# Altium schematic symbol library CANcard.SchLib: 10 symbols
Pins are listed as number, name and electrical type; pins without a type are passive.

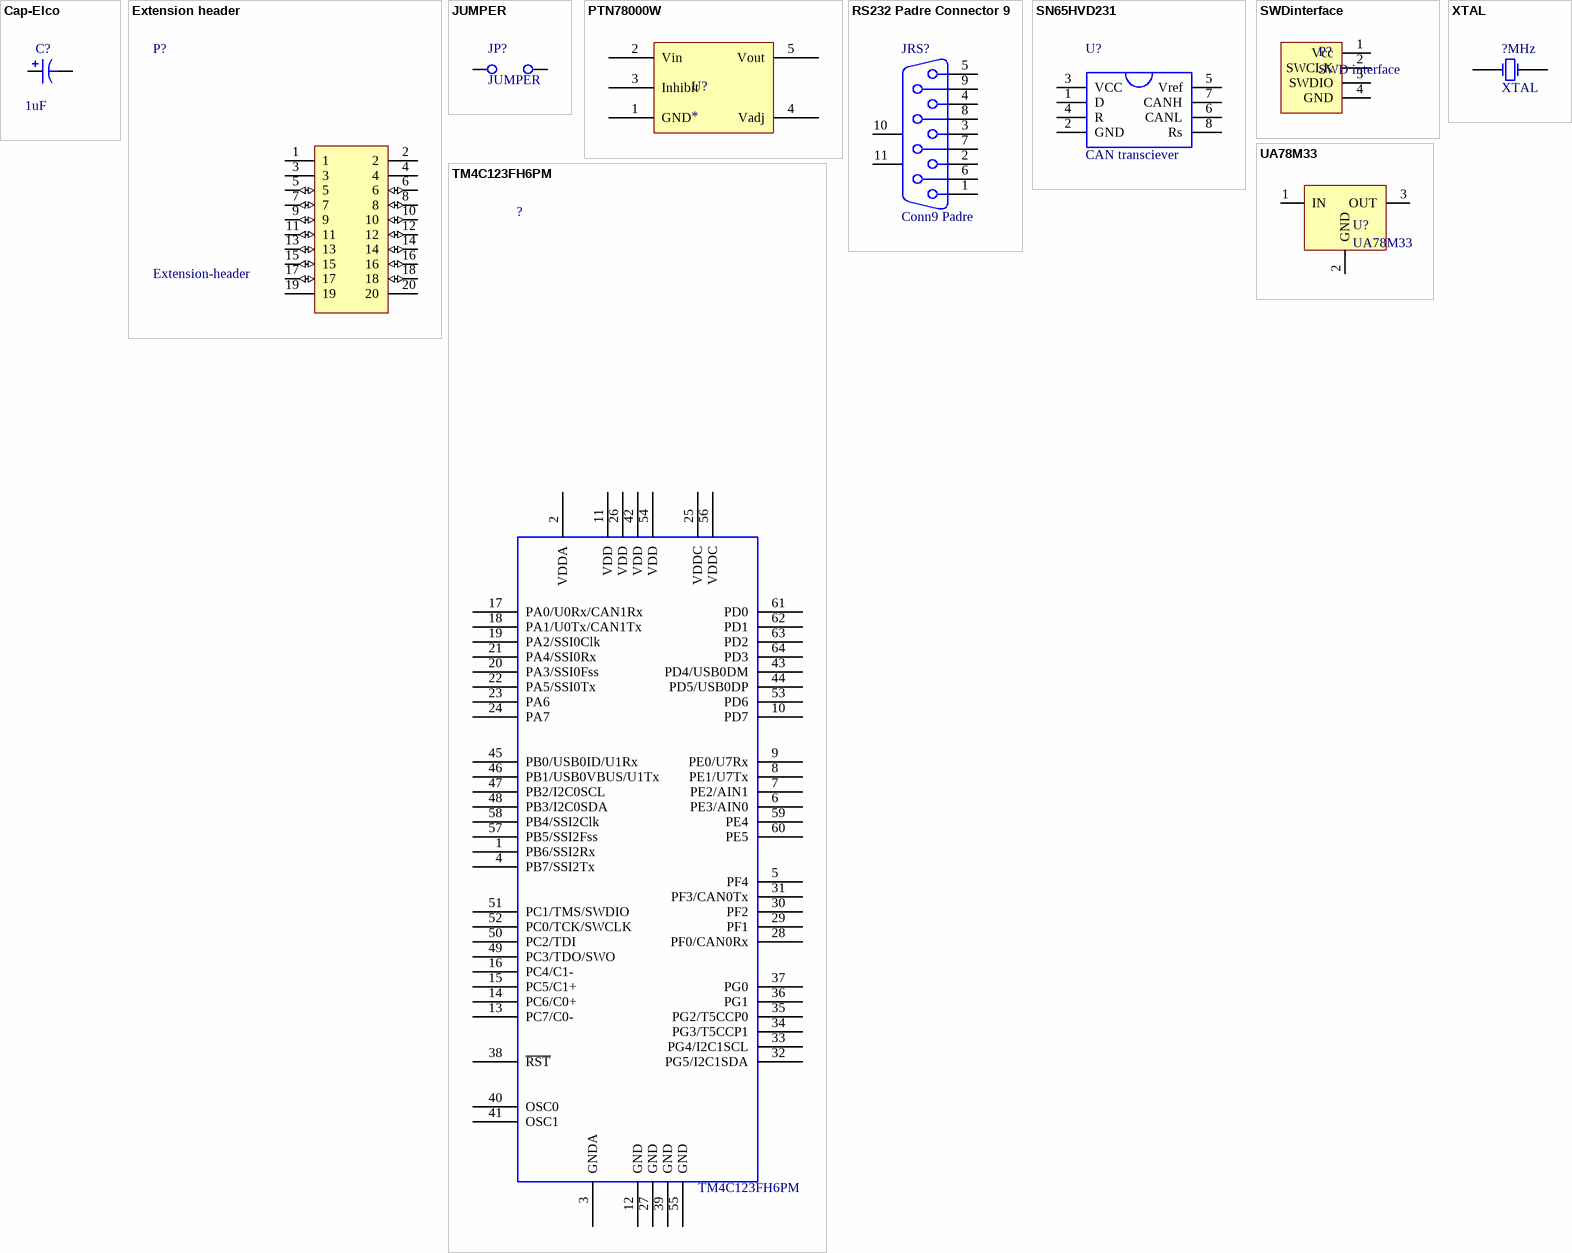
[diagram p0: symbols Cap-Elco to XTAL]

## Cap-Elco
designator C?, comment 1uF
Polarized Capacitor; Value: 1uF
footprint 7343_D
footprint 3528_B (3528 TANTaL SMD "B"-Package)
pins: 1, 2
1 alternate drawing of the same symbol

## Extension header
designator P?, comment Extension-header
footprint FH20p254pitch_thru-hole (Connector; Header; 10x2 Position, 2.54mm pitch, thru-hole)
pins: 1 (power), 2 (power), 3, 4, 5 (io), 6 (io), 7 (io), 8 (io), 9 (io), 10 (io), 11 (io), 12 (io), 13 (io), 14 (io), 15 (io), 16 (io), 17 (io), 18 (io), 19 (power), 20 (power)

## JUMPER
designator JP?
Jumper Wire; Supplier: Farnell 1668537×1/6
footprint JUMPER (2×1 tüskesor)
pins: 1, 2

## PTN78000W
designator U?
1.5-A, WIDE-INPUT ADJUSTABLE SWITCHING REGULATOR
footprint PTN78000WAH
pins: 1 GND (power), 2 Vin (power), 3 Inhibit (power), 4 Vadj (power), 5 Vout (power)

## RS232 Padre Connector 9
designator JRS?, comment Conn9 Padre
RS232 On Board Conn Padre; Manufacturer: Generic Components; Class: Connector; Positions: 9; Gender: Receptacle; Published: 15/06/2001; Publisher: Altium Hobart Technology Centre; Orientation: Right Angle
footprint RS232 MADRE
pins: 1, 2, 3, 4, 5, 6, 7, 8, 9, 10 MH1, 11 MH2

## SN65HVD231
designator U?, comment CAN transciever
Manufacturer: Generic Components; Published: 1999
footprint SOP8
pins: 1 D, 2 GND, 3 VCC, 4 R, 5 Vref, 6 CANL, 7 CANH, 8 Rs

## SWDinterface
designator P?, comment SWD interface
4 pole connector for debugging and programming; Supplier: Farnell: 1711329; Type: MOLEX - 87438-0443
footprint DF3A-4P-2DS (Based on Hirose DF3A-4P-2DS model.)
pins: 1 Vcc (power), 2 SWCLK (oc), 3 SWDIO (oc), 4 GND (power)

## TM4C123FH6PM
designator ?  Comment_1: TM4C123FH6PM  (hidden comment: *)
Tiva ARM Cortex-M3 Microcontroller; Manufacturer #1: Texas Instruments; Part Number: TM4C123FH6PMI; Designator: U
footprint LQFP64 (TM4C123FH6PM package)
pins: 1 PB6/SSI2Rx, 2 VDDA (power), 3 GNDA (power), 4 PB7/SSI2Tx, 5 PF4, 6 PE3/AIN0, 7 PE2/AIN1, 8 PE1/U7Tx, 9 PE0/U7Rx, 10 PD7, 11 VDD (power), 12 GND (power), 13 PC7/C0-, 14 PC6/C0+, 15 PC5/C1+, 16 PC4/C1-, 17 PA0/U0Rx/CAN1Rx, 18 PA1/U0Tx/CAN1Tx, 19 PA2/SSI0Clk, 20 PA3/SSI0Fss, 21 PA4/SSI0Rx, 22 PA5/SSI0Tx, 23 PA6, 24 PA7, 25 VDDC (power), 26 VDD (power), 27 GND (power), 28 PF0/CAN0Rx, 29 PF1, 30 PF2, 31 PF3/CAN0Tx, 32 PG5/I2C1SDA, 33 PG4/I2C1SCL, 34 PG3/T5CCP1, 35 PG2/T5CCP0, 36 PG1, 37 PG0, 38 ~{RST}, 39 GND (power), 40 OSC0, 41 OSC1, 42 VDD (power), 43 PD4/USB0DM, 44 PD5/USB0DP, 45 PB0/USB0ID/U1Rx, 46 PB1/USB0VBUS/U1Tx, 47 PB2/I2C0SCL, 48 PB3/I2C0SDA, 49 PC3/TDO/SWO, 50 PC2/TDI, 51 PC1/TMS/SWDIO, 52 PC0/TCK/SWCLK, 53 PD6, 54 VDD (power), 55 GND (power), 56 VDDC (power), 57 PB5/SSI2Fss, 58 PB4/SSI2Clk, 59 PE4, 60 PE5, 61 PD0, 62 PD1, 63 PD2, 64 PD3

## UA78M33
designator U?
Fixed output LDO up to 0.5A; Supplier: TI sample
footprint SOT-223
pins: 1 IN, 2 GND, 3 OUT

## XTAL
designator ?MHz
Crystal
footprint XTAL (16.000000MHz QUARZ SMD/NXK-32 (NSK) package)
pins: 1, 2 OSC2